# Altium schematic symbol library Schlib1.SchLib: 3 symbols
Pins are listed as number, name and electrical type; pins without a type are passive.

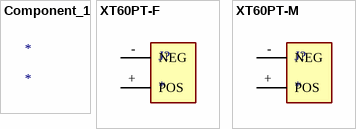
[diagram p0: symbols Component_1 to XT60PT-M]

## Component_1
designator *

## XT60PT-F
designator J?
Female SMT XT60 Connector
footprint XT60PT-F
pins: + POS, - NEG

## XT60PT-M
designator J?
Male SMT XT60 Connector
footprint XT60PT-M
pins: + POS, - NEG